# EAGLE library part PIC24F16KA102-I/SP (library eko-parts)
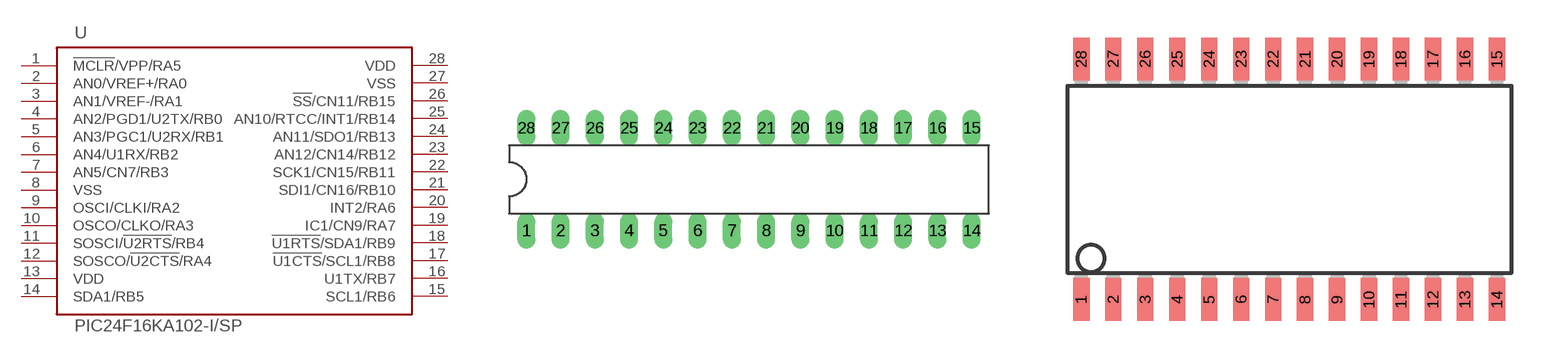
[diagram p2: symbol with the pads of SPDIP28; footprints SPDIP28, SO28W]

Designator prefix -

## PIC24F16KA102-I/SP  [SPDIP28]
1  !MCLR!/VPP/RA5
2  AN0/VREF+/RA0
3  AN1/VREF-/RA1
4  AN2/PGD1/U2TX/RB0
5  AN3/PGC1/U2RX/RB1
6  AN4/U1RX/RB2
7  AN5/CN7/RB3
8  VSS  pwr
9  OSCI/CLKI/RA2
10  OSCO/CLKO/RA3
11  SOSCI/!U2RTS!/RB4
12  SOSCO/!U2CTS!/RA4
13  VDD  pwr
14  SDA1/RB5
15  SCL1/RB6
16  U1TX/RB7
17  !U1CTS!/SCL1/RB8  out
18  !U1RTS!/SDA1/RB9
19  IC1/CN9/RA7
20  INT2/RA6
21  SDI1/CN16/RB10
22  SCK1/CN15/RB11
23  AN12/CN14/RB12
24  AN11/SDO1/RB13
25  AN10/RTCC/INT1/RB14
26  !SS!/CN11/RB15
27  VSS  pwr
28  VDD  pwr

## PIC24F16KA102-I/SPSOIC  [SO28W]
Pads as for SPDIP28

## Footprint SPDIP28 (pad centres in mm)
drill 0.813 long: 1 -15.24,-3.81; 2 -12.7,-3.81; 3 -10.16,-3.81; 4 -7.62,-3.81; 5 -5.08,-3.81; 6 -2.54,-3.81; 7 0,-3.81; 8 2.54,-3.81; 9 5.08,-3.81; 10 7.62,-3.81; 11 10.16,-3.81; 12 12.7,-3.81; 13 15.24,-3.81; 14 17.78,-3.81; 15 17.78,3.81; 16 15.24,3.81; 17 12.7,3.81; 18 10.16,3.81; 19 7.62,3.81; 20 5.08,3.81; 21 2.54,3.81; 22 0,3.81; 23 -2.54,3.81; 24 -5.08,3.81; 25 -7.62,3.81; 26 -10.16,3.81; 27 -12.7,3.81; 28 -15.24,3.81

## Footprint SO28W (pad centres in mm)
smd 0.65 x 1.7: 1 -7.62,-4.78; 2 -6.35,-4.78; 3 -5.08,-4.78; 4 -3.81,-4.78; 5 -2.54,-4.78; 6 -1.27,-4.78; 7 0,-4.78; 8 1.27,-4.78; 9 2.54,-4.78; 10 3.81,-4.78; 11 5.08,-4.78; 12 6.35,-4.78; 13 7.62,-4.78; 14 8.89,-4.78; 15 8.89,4.78; 16 7.62,4.78; 17 6.35,4.78; 18 5.08,4.78; 19 3.81,4.78; 20 2.54,4.78; 21 1.27,4.78; 22 0,4.78; 23 -1.27,4.78; 24 -2.54,4.78; 25 -3.81,4.78; 26 -5.08,4.78; 27 -6.35,4.78; 28 -7.62,4.78